# EAGLE library part 68612414122 (library Eagle_FPC_CONNECTOR_AND_FFC_CAB (rev18c))
WR-FPC 1.00mm SMT ZIF Horizontal Top Contact, 24 Pins=>Code : Con_FPC_ZIF_1.00_68612414122 <http://katalog.we-online.de/media/images/eican/Con_FPC_ZIF_1.00_6861xx14122_pf2.jpg> Details see: http://katalog.we-online.de/en/em/686_1xx_141_22 Created 2014-07-09, Karrer Zheng 2014 (C) Würth Elektronik
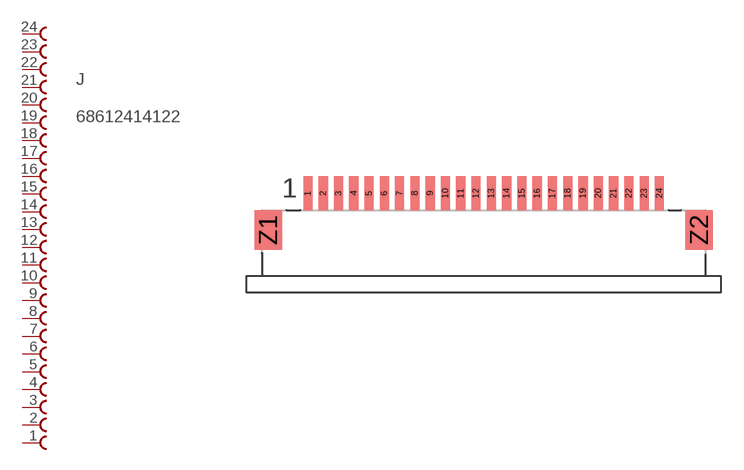
[diagram p49: symbol with the pads of 68612414122; footprint 68612414122]

Designator prefix J

## 68612414122  [68612414122]
1  24  pas
2  23  pas
3  22  pas
4  21  pas
5  20  pas
6  19  pas
7  18  pas
8  17  pas
9  16  pas
10  15  pas
11  14  pas
12  13  pas
13  12  pas
14  11  pas
15  10  pas
16  9  pas
17  8  pas
18  7  pas
19  6  pas
20  5  pas
21  4  pas
22  3  pas
23  2  pas
24  1  pas

## Footprint 68612414122 (pad centres in mm)
WR-FPC 1.00mm SMT ZIF Horizontal Top Contact, 24 Pins
smd 0.6 x 2.2: 1 -11.5,2.4; 2 -10.5,2.4; 3 -9.5,2.4; 4 -8.5,2.4; 5 -7.5,2.4; 6 -6.5,2.4; 7 -5.5,2.4; 8 -4.5,2.4; 9 -3.5,2.4; 10 -2.5,2.4; 11 -1.5,2.4; 12 -0.5,2.4; 13 0.5,2.4; 14 1.5,2.4; 15 2.5,2.4; 16 3.5,2.4; 17 4.5,2.4; 18 5.5,2.4; 19 6.5,2.4; 20 7.5,2.4; 21 8.5,2.4; 22 9.5,2.4; 23 10.5,2.4; 24 11.5,2.4
smd 1.8 x 2.6: Z1 -14.1,0; Z2 14.1,0